# Altium schematic symbol library 0836149012.SchLib: 1 symbol
Pins are listed as number, name and electrical type; pins without a type are passive.

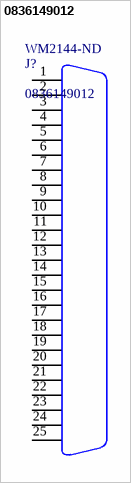
[diagram p0: symbol 0836149012]

## 0836149012
designator J?  Supplier Part Number 1: WM2144-ND
Mini-DSUB 25-pos Connector; Supplier 1: Digi-Key
footprint 0836149012 (Mini-DSUB 25-pos Connector)
pins: 1, 2, 3, 4, 5, 6, 7, 8, 9, 10, 11, 12, 13, 14, 15, 16, 17, 18, 19, 20, 21, 22, 23, 24, 25